# EAGLE library part FTDI_POGO (library digikey)
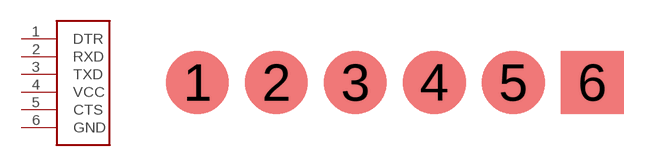
[diagram p10: symbol with the pads of FTDI_POGO; footprint FTDI_POGO]

Designator prefix -

## FTDI_POGO  [FTDI_POGO]
1  DTR
2  RXD
3  TXD
4  VCC
5  CTS
6  GND

## Footprint FTDI_POGO (pad centres in mm)
smd 2.032 x 2.032: 1 -6.35,0; 2 -3.81,0; 3 -1.27,0; 4 1.27,0; 5 3.81,0; 6 6.35,0